# EAGLE library part MCP73871 (library heck)
Stand-Alone System Load Sharing and Li-Ion/Li-Polymer Battery Charge Management Controller
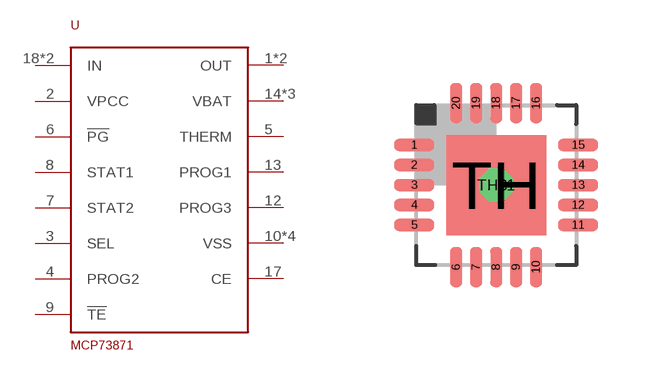
[diagram p9: symbol with the pads of QFN20; footprint QFN20]

Designator prefix U

## MCP73871  [QFN20]
1  OUT  pwr
2  VPCC
3  SEL
4  PROG2
5  THERM
6  !PG
7  STAT2
8  STAT1
9  !TE
10  VSS  pwr
11  VSS  pwr
12  PROG3
13  PROG1
14  VBAT  pwr
15  VBAT  pwr
16  VBAT  pwr
17  CE
18  IN  pwr
19  IN  pwr
20  OUT  pwr
TH  VSS  pwr
TH$1  VSS  pwr

## Footprint QFN20 (pad centres in mm)
smd 1 x 0.3: 1 -2.05,1; 2 -2.05,0.5; 3 -2.05,0; 4 -2.05,-0.5; 5 -2.05,-1; 11 2.05,-1; 12 2.05,-0.5; 13 2.05,0; 14 2.05,0.5; 15 2.05,1
smd 0.3 x 1: 6 -1,-2.05; 7 -0.5,-2.05; 8 0,-2.05; 9 0.5,-2.05; 10 1,-2.05; 16 1,2.05; 17 0.5,2.05; 18 0,2.05; 19 -0.5,2.05; 20 -1,2.05
smd 2.5 x 2.5: TH 0,0
drill 0.33 pad 0.762 octagon: TH$1 0,0